# Altium schematic symbol library Connectors_EFR.SchLib: 133 symbols (part 3 of 3)
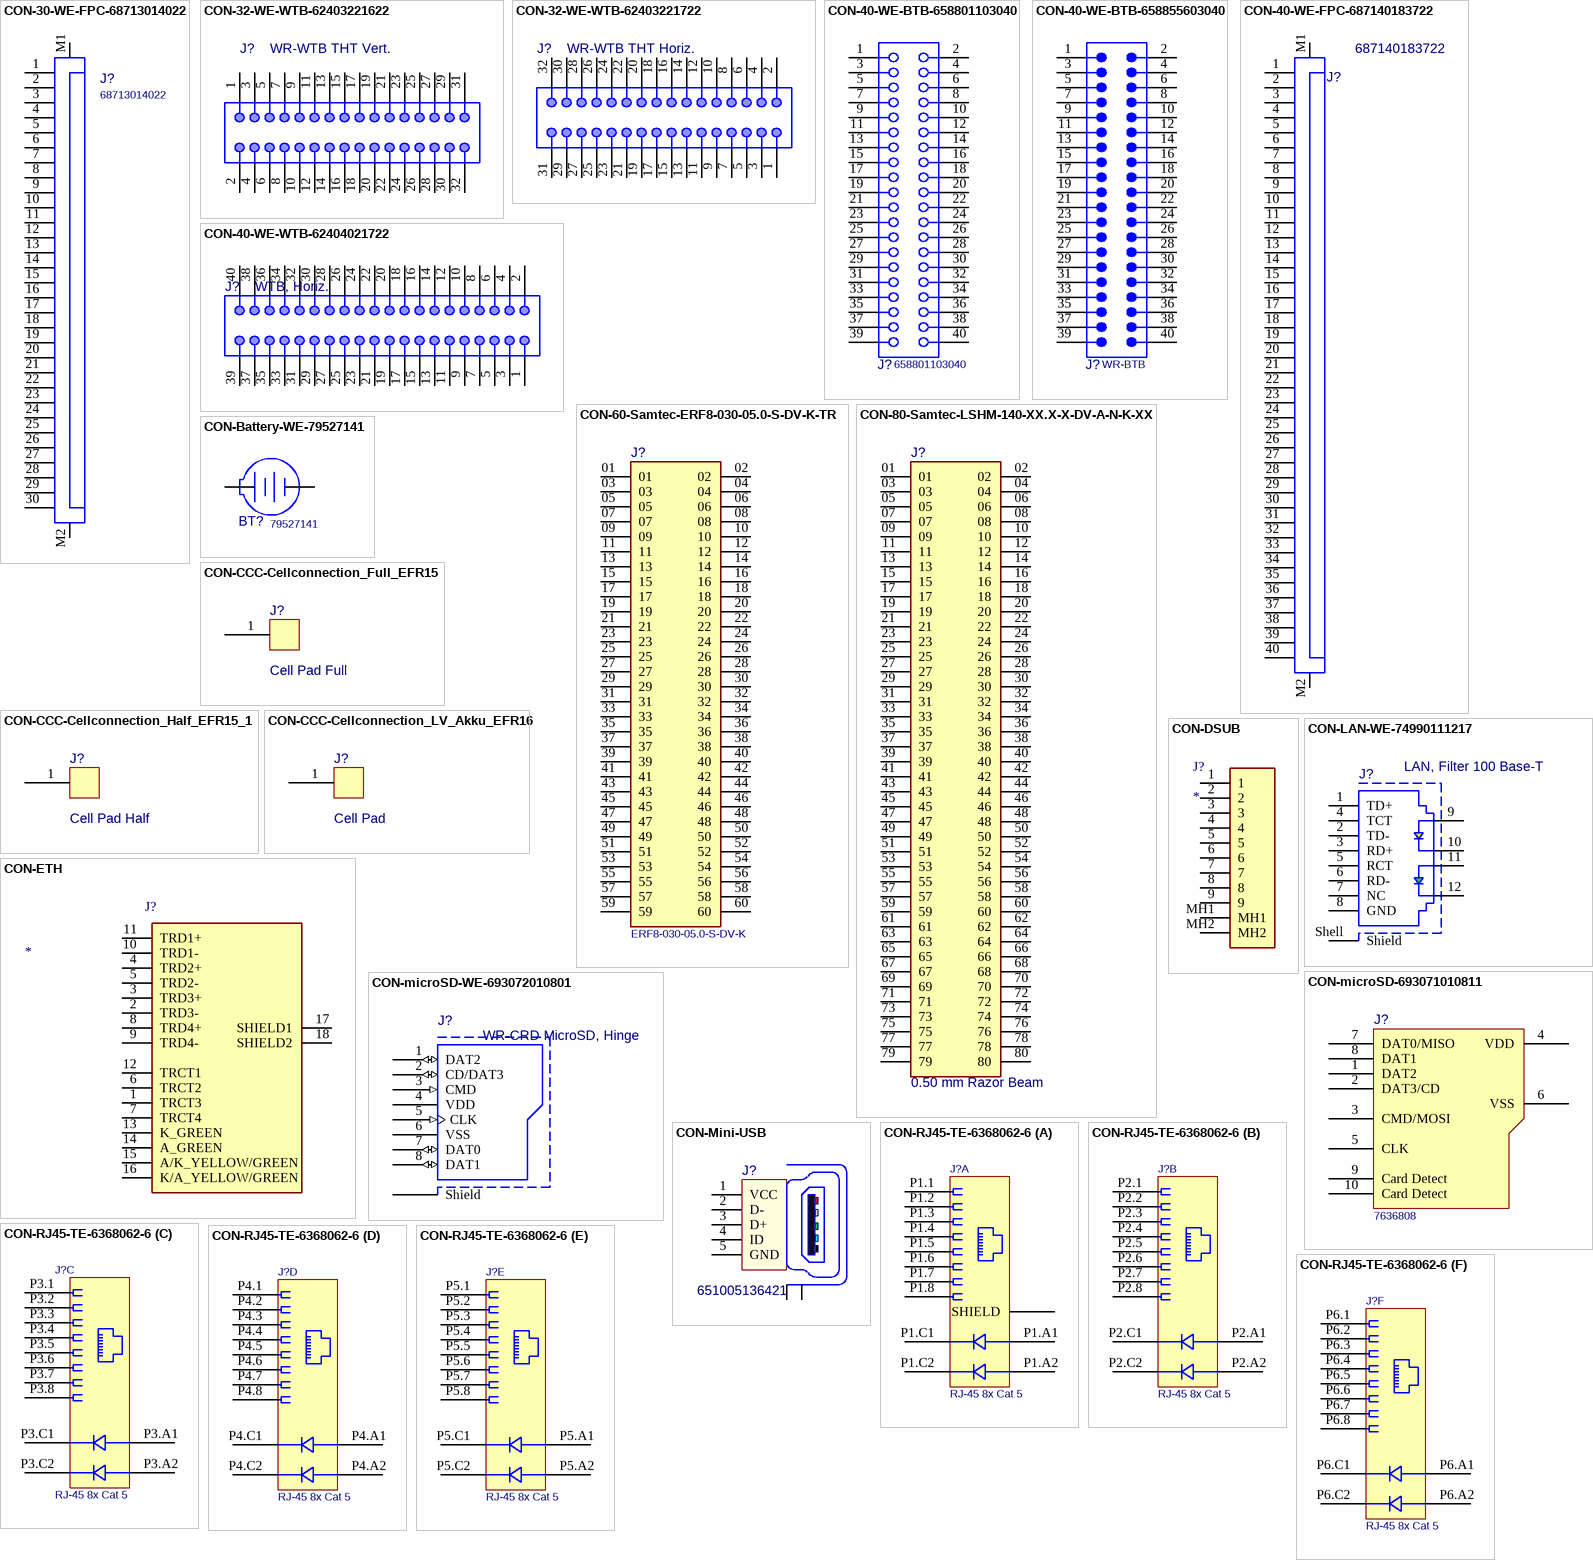
[diagram p6: symbols CON-30-WE-FPC-68713014022 to CON-RJ45-TE-6368062-6]

## CON-80-Samtec-LSHM-140-XX.X-X-DV-A-N-K-XX
designator J?, comment 0.50 mm Razor Beam
LSHM - Samtec 0.50mm Razor Beam High-Speed Hermaphroditic Terminal / Socket Strip; Manufacturer P/N: LSHM-140-06.0-L-DV-A-N-K-TR; Manufacturer: Samtec; Check_prices: https://www.snapeda.com/parts/LSHM-140-06.0-L-DV-A-N-K-TR/Samtec/view-part/3558786/?ref=eda; SnapEDA_Link: https://www.snapeda.com/parts/LSHM-140-06.0-L-DV-A-N-K-TR/Samtec/view-part/3558786/?ref=snap; Price: None; Package: None; Availability: In Stock; Value: *; Purchase-URL: https://pricing.snapeda.com/search/part/LSHM-140-06.0-L-DV-A-N-K-TR/?ref=eda; Mounting Technology: SMT
footprint SAMTEC_LSHM-140-XX.X-X-DV-A-N-K-XX
pins: 01, 02, 03, 04, 05, 06, 07, 08, 09, 10, 11, 12, 13, 14, 15, 16, 17, 18, 19, 20, 21, 22, 23, 24, 25, 26, 27, 28, 29, 30, 31, 32, 33, 34, 35, 36, 37, 38, 39, 40, 41, 42, 43, 44, 45, 46, 47, 48, 49, 50, 51, 52, 53, 54, 55, 56, 57, 58, 59, 60, 61, 62, 63, 64, 65, 66, 67, 68, 69, 70, 71, 72, 73, 74, 75, 76, 77, 78, 79, 80

## CON-Battery-WE-79527141
designator BT?, comment 79527141
WA-BCPH Battery Holder, SMT, battery type 2032; Manufacturer: Würth Elektronik; Battery Type: 2032; ComponentLink1Description: Website Link; ComponentLink1URL: https://www.we-online.com/redexpert/article/79527141?ad; ComponentLink2Description: Datasheet Link; ComponentLink2URL: https://www.we-online.com/redexpert/spec/79527141?ad; Manufacturer P/N: 79527141; Category: Battery Holders; Match Code: WA-BCPH; Mounting Technology: SMT; Operating Temperature Max: 105°C; Operating Temperature Min: -40°C; Packaging: Tape and Reel
footprint 79527141
pins: 1 +, 2 -

## CON-CCC-Cellconnection_Full_EFR15
designator J?, comment Cell Pad Full  (no BOM)
Cell Connection Pad Full for 4 Cells on CCC EFR15; Manufacturer: Elbflorace e.V.; PinNumber: 2; Manufacturer P/N: *
footprint CON-CCC-Cellconnection_Full_EFR15
pins: 1

## CON-CCC-Cellconnection_Half_EFR15_1
designator J?, comment Cell Pad Half  (no BOM)
Cell Connection Pad Half for 2 Cells on CCC EFR15; Manufacturer: Elbflorace e.V.; PinNumber: 2; Manufacturer P/N: *
footprint CON-CCC-Cellconnection_Half_EFR15
pins: 1

## CON-CCC-Cellconnection_LV_Akku_EFR16
designator J?, comment Cell Pad  (no BOM)
Cell Connection Pad on LVCSC EFR16; Manufacturer: Elbflorace e.V.; PinNumber: 2; Manufacturer P/N: *
footprint CON-CCC-Cellconnection_Full_LV_Akku_EFR16
footprint CON-CCC-Cellconnection_Half_LV_Akku_EFR16
footprint CON-CCC-Cellconnection_Thin_LV_Akku_EFR16
pins: 1

## CON-DSUB
designator J?
2301843-1; Manufacturer: TE Connectivity; Datasheet Link: https://componentsearchengine.com/Datasheets/2/2301843-1.pdf; Height: 13.955mm; Manufacturer P/N: 2301843-1; Mouser Part Number: 571-2301843-1; Mouser Price/Stock: https://www.mouser.com/Search/Refine.aspx?Keyword=571-2301843-1; Mounting Technology: THT
footprint CON-DSUB
pins: 1, 2, 3, 4, 5, 6, 7, 8, 9, MH1, MH2

## CON-ETH
designator J?
0826-1K1T-43-F / Connector for Ethernet with Shield and 2 LEDs; Manufacturer: Bel; Datasheet Link: https://belfuse.com/resources/drawings/magneticsolutions/dr-mag-0826-1k1t-43-f.pdf; Height: 13.61mm; Manufacturer P/N: 0826-1K1T-43-F; Mouser Part Number: 530-0826-1K1T-43-F; Mounting Technology: THT
footprint 08261K1T43F
pins: 1 TRCT3, 2 TRD3-, 3 TRD3+, 4 TRD2+, 5 TRD2-, 6 TRCT2, 7 TRCT4, 8 TRD4+, 9 TRD4-, 10 TRD1-, 11 TRD1+, 12 TRCT1, 13 K_GREEN, 14 A_GREEN, 15 A/K_YELLOW/GREEN, 16 K/A_YELLOW/GREEN, 17 SHIELD1, 18 SHIELD2

## CON-LAN-WE-74990111217
designator J?, comment LAN, Filter 100 Base-T
WE-RJ45 LAN Transformer, THT, 10/100 Base-T, Port 1x1, Tab Up; Manufacturer P/N: 74990111217; Manufacturer: Würth Elektronik; PoE: non-PoE; LED: yellow-green; USB: No; Shield Tabs: Yes; ComponentLink1Description: Manufacturer; ComponentLink1URL: http://www.we-online.de; ComponentLink2Description: Datasheet; ComponentLink2URL: https://www.we-online.com/catalog/datasheet/74990111217.pdf; Published Date: October 2020; Tab: Up; Port Number: 1x1; Data Rate: 10/100 Base-T; Operating Temperature: -40 to +85degC; Mounting Technology: THT; Packaging: Tube; HPLE: No
footprint CON-LAN-WE-74990111217 (LAN Transformer, body 21.3x16mm)
pins: 1 TD+, 2 TD-, 3 RD+, 4 TCT, 5 RCT, 6 RD-, 7 NC, 8 GND, 9, 10, 11, 12, Shell Shield

## CON-microSD-693071010811
designator J?, comment Supplier Part Number 1: 7636808  (hidden comment: 693071010811)
WR-CRD Micro SD Card Connector, Push & Push, with card detection; Manufacturer: Würth Elektronik; Contact Resistance: 100mΩ; Gender: Socket; Rated Current: 0.5A; Working Voltage: 100VAC; Withstanding Voltage: 500VAC; Number of Contacts: 8; ComponentLink1Description: Website Link; ComponentLink1URL: https://www.we-online.com/redexpert/article/693071010811?ad; ComponentLink2Description: Datasheet Link; ComponentLink2URL: https://www.we-online.com/redexpert/spec/693071010811?ad; Category: Input/Output Connectors; Match Code: WR-CRD; Mounting Technology: SMT; Operating Temperature Max: 85°C; Operating Temperature Min: -25°C; Packaging: Tape and Reel; Number of Pins: 8; Type: Push & Push; Supplier 1: RSComponents; Supplier 2: Mouser; Manufacturer P/N: 693071010811; RoHS: Yes; Stock 2: 32325; Pricing 2: 1=3,11000, 10=3,04000, 50=2,68000, 100=2,56000, 500=2,19000, 1000=2,19000, 1400=2,01000, 10000=2,01000 (USD); Contact Material: Copper Alloy,Copper,Gold; Contact Plating: Gold; Min Operating Temperature: -25°C; Max Operating Temperature: 85°C; Package Quantity: 1; Connector Type: Connector; Series: -; Length: 14mm; Width: 15.2mm; Height: 1.98mm; REACH SVHC: Unknown; RoHS Compliant: Yes; Lead Free: Lead Free; Supplier Part Number 2: 710-693071010811
footprint CON-WE-693071010811 (Micro SD Card Connector Push & Push - with Card Detection - 8 Pins)
pins: 1 DAT2, 2 DAT3/CD, 3 CMD/MOSI, 4 VDD, 5 CLK, 6 VSS, 7 DAT0/MISO, 8 DAT1, 9 Card Detect, 10 Card Detect

## CON-microSD-WE-693072010801
designator J?, comment WR-CRD MicroSD, Hinge
WR-CRD Micro SD Card Connector Hinge Type; Manufacturer: Würth Elektronik; Manufacturer P/N: 693072010801; Contact Resistance: 100mOhm; Gender: Socket; Pin Number: 8; Working Voltage: 100VAC; Withstanding Voltage: 500VAC; Rated Current: 0.5A; ComponentLink1Description: Manufacturer; ComponentLink1URL: https://www.we-online.com/katalog/en/CRD_SD_MICRO_HINGEL_8_PINS#693072010801; ComponentLink2Description: Datasheet; ComponentLink2URL: https://katalog.we-online.com/em/datasheet/693072010801.pdf; Packaging: Tape and Reel; Published Date: November 2019; Mounting Technology: SMT; Operating Temperature: -25 to +85degC; Type: Hinge
footprint WE-microSD-693072010801 (Micro SD Card Connector Hinge - 8 Pins)
pins: 1 DAT2 (io), 2 CD/DAT3 (io), 3 CMD (in), 4 VDD (power), 5 CLK (in), 6 VSS (power), 7 DAT0 (io), 8 DAT1 (io), Shield

## CON-Mini-USB
designator J?, comment 651005136421
WR-COM Mini USB Vertical TH Type B 5 Contacts; Manufacturer: Würth Elektronik eiSos GmbH; ComponentLink1 Description: Manufacturer; ComponentLink2 Description: Datasheet; NoPins: 5; ComponentLink1URL: http://www.we-online.de; ComponentLink2URL: http://katalog.we-online.de/em/datasheet/651005136421.pdf; Created by: Karrer Zheng; Created Date: 10/10/2014; Manufacturer P/N: 651005136421; ComponentLink1Description: Hersteller; ComponentLink1URL: https://www.we-online.de/katalog/de/COM_MINI_TYPE_B_VERTICAL/; ComponentLink2Description: Datenblatt; ComponentLink2URL: https://www.we-online.de/katalog/datasheet/651005136421.pdf; Mounting Technology: THT
footprint CON-MiniUSB-651005136421 (Mini USB 2.0 Type B Vertical 5 Contacts)
pins: 1 VCC, 2 D-, 3 D+, 4 ID, 5 GND, Shell, Shell

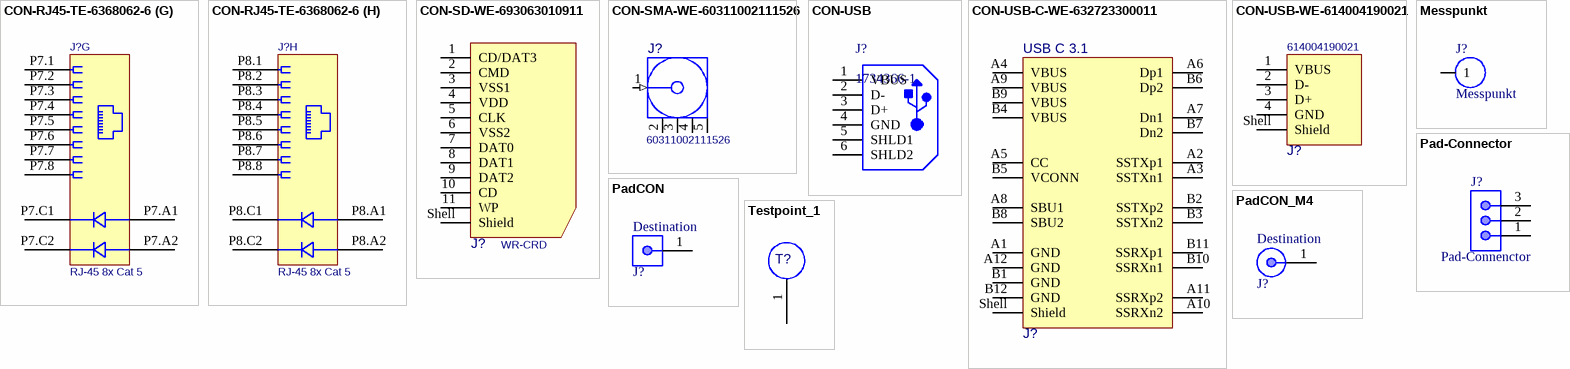
[diagram p4: symbols CON-RJ45-TE-6368062-6 to Testpoint_1]

## CON-RJ45-TE-6368062-6
designator J?, comment RJ-45 8x Cat 5
Conn RJ-45 F 64 POS 2.03mm Solder RA Thru-Hole 96 Terminal 8 Port Tray Cat 5; Manufacturer: TE Connectivity; Manufacturer P/N: 6368062-6; Type 1: Connector; Type 2: IO Connector; Package: None; ComponentLink1Description: Website; ComponentLink1URL: https://www.te.com/de/product-6368062-6.html; ComponentLink2Description: Datasheet; ComponentLink2URL: https://www.te.com/commerce/DocumentDelivery/DDEController?Action=showdoc&DocId=Customer+Drawing%7F6368062%7FE1%7Fpdf%7FEnglish%7FENG_CD_6368062_E1.pdf%7F6368062-6; ComponentLink3Description: SnapEDA; ComponentLink3URL: https://www.snapeda.com/parts/6368062-6/TE%20Connectivity/view-part/; Width (mm): 59.82; Length (mm): 31.06; Height (mm): 17.28; Pin Number: *; Mounting Technology: THT; Parameter 4: *; Supplier 1: Digikey; Supplier Part Number 1: A144991-ND
footprint CON-TE-6368062-6
part A pins: P1.1, P1.2, P1.3, P1.4, P1.5, P1.6, P1.7, P1.8, P1.A1, P1.A2, P1.C1, P1.C2, S1 SHIELD, S2 SHIELD, S3 SHIELD, S4 SHIELD, S5 SHIELD, S6 SHIELD, S7 SHIELD, S8 SHIELD, S9 SHIELD, S10 SHIELD, S11 SHIELD
part B pins: P2.1, P2.2, P2.3, P2.4, P2.5, P2.6, P2.7, P2.8, P2.A1, P2.A2, P2.C1, P2.C2
part C pins: P3.1, P3.2, P3.3, P3.4, P3.5, P3.6, P3.7, P3.8, P3.A1, P3.A2, P3.C1, P3.C2
part D pins: P4.1, P4.2, P4.3, P4.4, P4.5, P4.6, P4.7, P4.8, P4.A1, P4.A2, P4.C1, P4.C2
part E pins: P5.1, P5.2, P5.3, P5.4, P5.5, P5.6, P5.7, P5.8, P5.A1, P5.A2, P5.C1, P5.C2
part F pins: P6.1, P6.2, P6.3, P6.4, P6.5, P6.6, P6.7, P6.8, P6.A1, P6.A2, P6.C1, P6.C2
part G pins: P7.1, P7.2, P7.3, P7.4, P7.5, P7.6, P7.7, P7.8, P7.A1, P7.A2, P7.C1, P7.C2
part H pins: P8.1, P8.2, P8.3, P8.4, P8.5, P8.6, P8.7, P8.8, P8.A1, P8.A2, P8.C1, P8.C2

## CON-SD-WE-693063010911
designator J?, comment WR-CRD
WR-CRD SD Card Connector Push & Pull with Card Detection; Manufacturer P/N: 693063010911; Manufacturer: Würth Elektronik; Contact Resistance: 100mOhm; Gender: Socket; Rated Current: 0.5A; Working Voltage: 100VAC; Withstanding Voltage: 500VAC; Category: Input/Output Connectors; Match Code: WR-CRD; ComponentLink1Description: Website Link; ComponentLink1URL: https://www.we-online.com/redexpert/article/693063010911?ad; ComponentLink2Description: Datasheet Link; ComponentLink2URL: https://www.we-online.com/redexpert/spec/693063010911?ad; Mounting Technology: SMT; Operating Temperature Max: 85°C; Operating Temperature Min: -25°C; Packaging: Tape and Reel; Number of Pins: 9; Type: Push & Pull
footprint 693063010911
pins: 1 CD/DAT3, 2 CMD, 3 VSS1, 4 VDD, 5 CLK, 6 VSS2, 7 DAT0, 8 DAT1, 9 DAT2, 10 CD, 11 WP, Shell Shield

## CON-SMA-WE-60311002111526
designator J?, comment 60311002111526
WR-SMA PCB Jack, THT, Right Angle; Manufacturer: Würth Elektronik; Impedance: 50Ohm; Connector Type: SMA; Frequency Range: DC~6GHz; Interface: MIL-STD-348; Center Contact Diameter: 1.27mm; ComponentLink1Description: Manufacturer; ComponentLink1URL: http://www.we-online.de; ComponentLink2Description: Datasheet; ComponentLink2URL: https://katalog.we-online.com/em/datasheet/60311002111526.pdf; Manufacturer P/N: 60311002111526; Published Date: May 2019; Operating Temperature: -65 to +165degC; Gender: Jack; Packaging: Tray; Mounting Technology: THT; Orientation Type: Right Angle
footprint CON-SMA-60311002111526 (SMA PCB THT Jack)
pins: 1 Signal (in) "Signal Pin", 2 GND (power), 3 GND (power), 4 GND (power), 5 GND (power)

## CON-USB
designator J?, comment 1734366-1
Recept Assy, Vertical, 4 Position, Thru-Hole, Type A USB, RoHS, Tray; Manufacturer: TE Connectivity; Case\Package: SMA; Peak Reverse Current: 200 uA; Forward Voltage: 500 mV; Max Surge Current: 40 A; Max Operating Temperature: 125 degC; ComponentLink1URL: http://www.te.com/; Mounting Technology: SMT; ComponentLink2URL: http://www.te.com/commerce/DocumentDelivery/DDEController?Action=showdoc&DocId=Customer+Drawing%7F1734366%7FC3%7Fpdf%7FEnglish%7FENG_CD_1734366_C3.pdf%7F1734366-1; ComponentLink2Description: Datasheet; Pins: 2; RoHSCompliant: true; REACH SVHC: No SVHC; Radiation Hardening: No; Min Operating Temperature: -65 degC; Manufacturer P/N: 1734366-1; PackageDescription: 6-Pin Through Hole Device, Length 15 mm, Height 15 mm, Tail Length 2.8 mm; ComponentLink1Description: Manufacturer URL; Package Quantity: 7500; DatasheetVersion: Rev. C3, 03/2016; Packaging: Tape and Reel
footprint CON-USB (Connector, 6-Leads, Body 7.62x15mm)
pins: 1 VBUS, 2 D-, 3 D+, 4 GND, 5 SHLD1, 6 SHLD2

## CON-USB-C-WE-632723300011
designator J?, comment USB C 3.1
WR-COM USB 3.1 Type C Receptacle Horizontal THR / SMT; Manufacturer P/N: 632723300011; Manufacturer: Würth Elektronik; Match Code: WR-USB; Interface Type: Type C; Number of Ports: 1; Rated Current: 5A; Working Voltage: 20V (DC); Category: Input/Output Connectors; ComponentLink1Description: Website Link; ComponentLink1URL: https://www.we-online.com/redexpert/article/632723300011?ad; ComponentLink2Description: Datasheet Link; ComponentLink2URL: https://www.we-online.com/redexpert/spec/632723300011?ad; Mounting Technology: SMT; Operating Temperature Max: 105°C; Operating Temperature Min: -40°C; Packaging: Tape and Reel; Application: USB 3.1; Gender: Receptacle; Number of Pins: 24; Orientation: Horizontal; Supplier 1: Mouser; Supplier Part Number 1: 710-632723300011; Supplier 2: Digi-Key; Supplier Part Number 2: 732-9618-6-ND
footprint CON-USB-C-WE-632723300011 (USB 3.1 Type C Receptacle Horizontal THR)
pins: A1 GND, A2 SSTXp1, A3 SSTXn1, A4 VBUS, A5 CC, A6 Dp1, A7 Dn1, A8 SBU1, A9 VBUS, A10 SSRXn2, A11 SSRXp2, A12 GND, B1 GND, B2 SSTXp2, B3 SSTXn2, B4 VBUS, B5 VCONN, B6 Dp2, B7 Dn2, B8 SBU2, B9 VBUS, B10 SSRXn1, B11 SSRXp1, B12 GND, Shell Shield

## CON-USB-WE-614004190021
designator J?, comment 614004190021
WR-COM USB 2.0 Type A Horizontal THT; Manufacturer: Würth Elektronik; Match Code: WR-USB; Gender: Receptacle; Interface Type: Type A; Number of Ports: 1; Rated Current: 3A; Working Voltage: 30V (AC); Manufacturer P/N: 614004190021; Category: Input/Output Connectors; ComponentLink1Description: Website Link; ComponentLink1URL: https://www.we-online.com/redexpert/article/614004190021?ad; ComponentLink2Description: Datasheet Link; ComponentLink2URL: https://www.we-online.com/redexpert/spec/614004190021?ad; Mounting Technology: THT; Operating Temperature Max: 85°C; Operating Temperature Min: -40°C; Packaging: Tray; Application: USB 2.0; Number of Pins: 4; Orientation: Horizontal
footprint 614004190021
pins: 1 VBUS, 2 D-, 3 D+, 4 GND, Shell Shield

## Messpunkt
designator J?
footprint Messpunkt
pins: 1

## Pad-Connector
designator J?, comment Pad-Connenctor
footprint TSAL-L Connector
footprint ASSI-Connector (1)
pins: 1, 2, 3

## PadCON
designator J?  (value not drawn)  (no BOM)
Pretty Awesome Device for Connection, 10A max; System: Connector; Destination: Destination
footprint PadCON_10*5 (Pretty Awesome Device for Connection)
footprint PadCON_60*10
pins: 1 (power)

## PadCON_M4
designator J?, comment M4 Pad Connector  (value not drawn)  (no BOM)
M4 hole to connect a PCB directly to a Würth Press-Fit Connector, 64A MAX; System: Connector; Destination: Destination
footprint PADCON_M4
pins: 1 (power)

## Testpoint_1
designator T?  (no BOM)
Testpoint
footprint Testpoint_1.5mm (Testpoint mit einem Durchmesser von 1.5mm)
footprint Testpoint_1mm (Testpoint mit einem Durchmesser von 1mm)
pins: 1